# Altium schematic symbol library 504050-0691.Schlib: 1 symbol
Pins are listed as number, name and electrical type; pins without a type are passive.

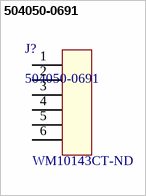
[diagram p0: symbol 504050-0691]

## 504050-0691
designator J?  Supplier Part Number 1: WM10143CT-ND
Wire-To-Board Connector, Pico-Lock 504050 Series, Surface Mount, Header, 6, 1.5 mm; Supplier 1: Digi-Key
footprint MOLEX_504050-0691 (Molex connector to antenna)
pins: 1, 2, 3, 4, 5, 6